# EAGLE library part SIL6 (library lib_paul)
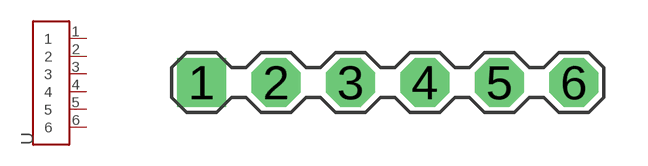
[diagram p12: symbol with the pads of CON6-2.54; footprint CON6-2.54]

Designator prefix -

## SIL6  [CON6-2.54]
1  1
2  2
3  3
4  4
5  5
6  6

## Footprint CON6-2.54 (pad centres in mm)
drill 1 pad 1.676 square: 1 -6.35,0
drill 1 pad 1.676 octagon: 2 -3.81,0; 3 -1.27,0; 4 1.27,0; 5 3.81,0; 6 6.35,0